# Altium footprint library SSOP.PcbLib: 2 footprints
Each footprint in its own frame and in the unit in brackets; x right, y up, seen from the top. Pads: shape width x height; smd on the part's side, far side on the other; paste and mask are expansions set on the pad; w line width, h text height; cw(c..) or ccw(c..) is an arc to the next point about the centre after c.
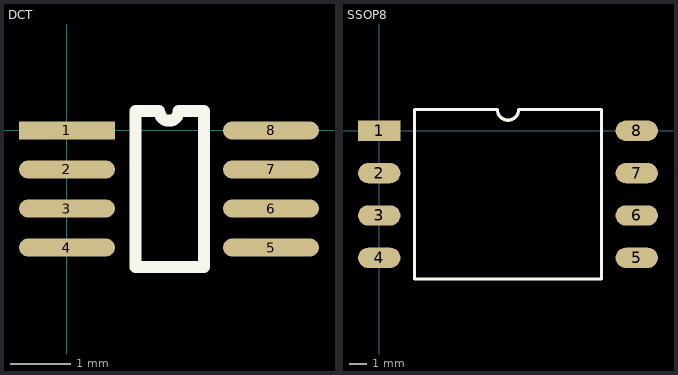
[diagram p0: the footprints below, top view; thin cyan lines are the x and y axes]

## DCT [mm]
pads (8):
  rect 1.6x0.3 smd: 1(0,0)
  oval 1.6x0.3 smd: 2(0,-0.65) 3(0,-1.3) 4(0,-1.95) 5(3.4,-1.95) 6(3.4,-1.3) 7(3.4,-0.65) 8(3.4,0)
Top Overlay:
  lines w0.2: 1.143,-2.275 1.143,0.325 1.538,0.325 ccw(c1.7,0.325) 1.862,0.325 2.286,0.325 2.286,-2.275 1.143,-2.275

## SSOP8 [mm] "SSOP8"
height 0.635
pads (8):
  rect 2.5x1.2 smd: 1(0,0)
  oval 2.5x1.2 smd: 2(0,-2.5) 3(0,-5) 4(0,-7.5) 5(15.2,-7.5) 6(15.2,-5) 7(15.2,-2.5) 8(15.2,0)
Top Overlay:
  lines w0.2: 2.085,-8.75 13.115,-8.75 13.115,1.25 8.225,1.25 cw(c7.6,1.25) 6.975,1.25 2.085,1.25 2.085,-8.75